# Altium integrated library ToponLib.IntLib: 48 symbols
Pins are listed as number, name and electrical type; pins without a type are passive.

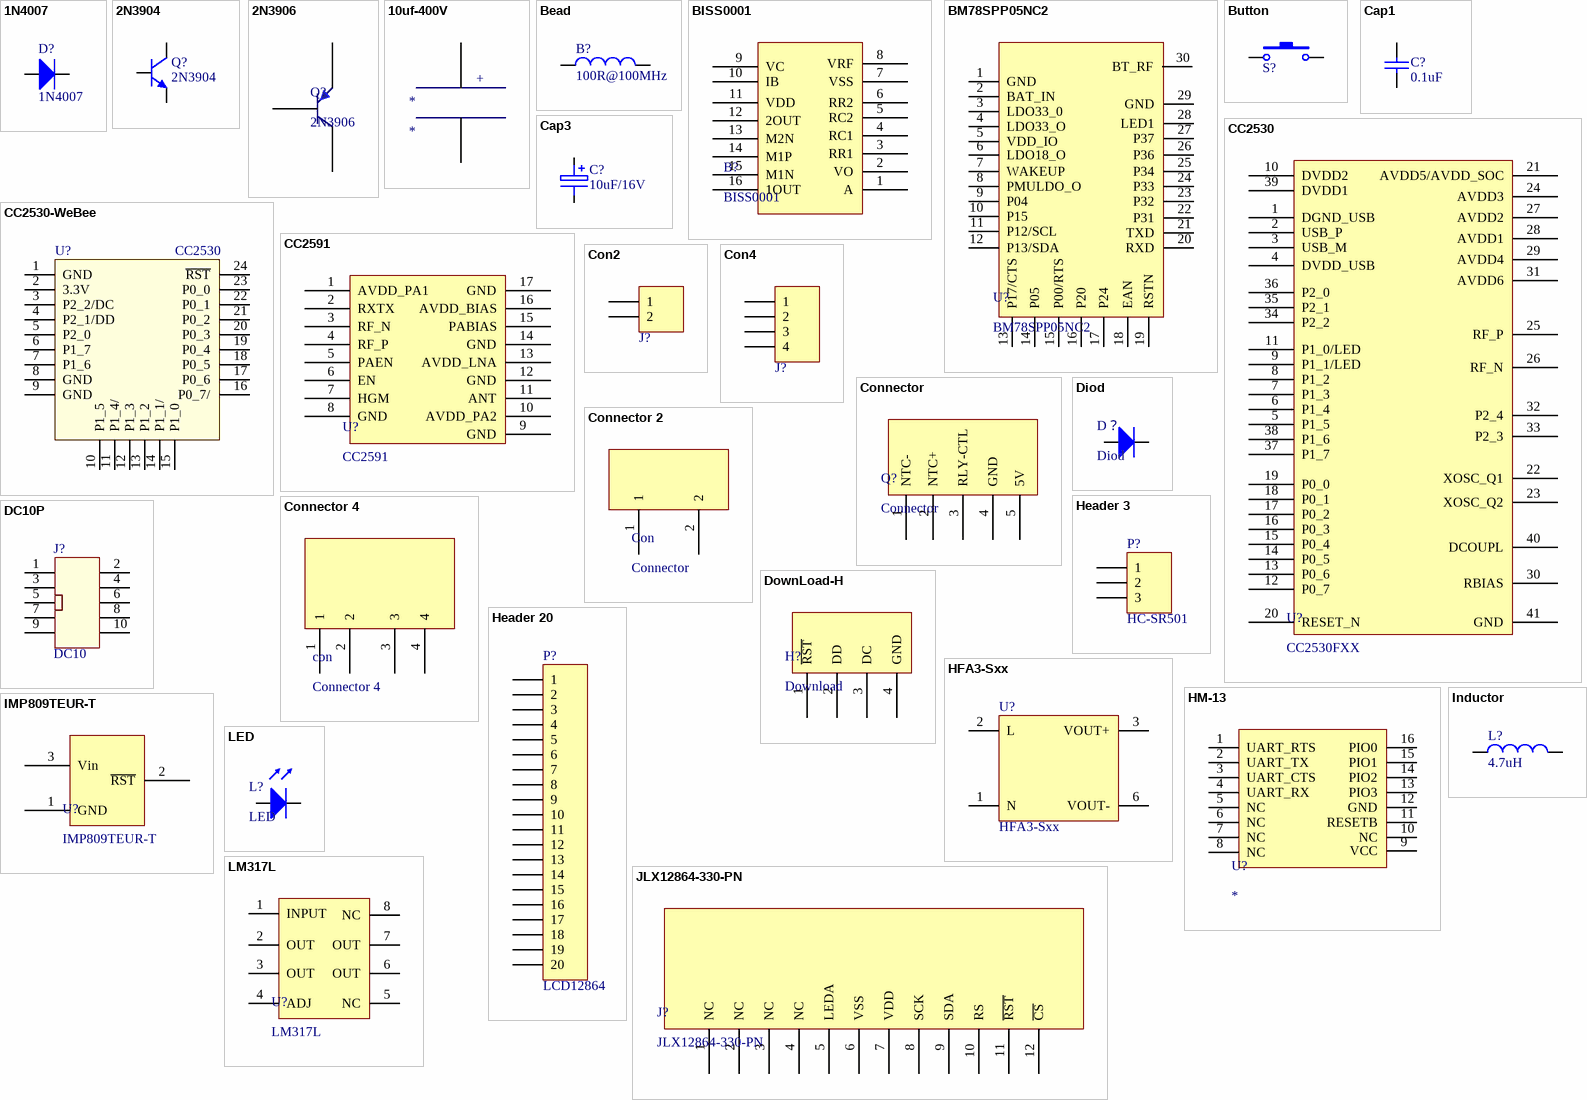
[diagram p0: symbols 1N4007 to LM317L]

## 1N4007
designator D?
footprint DO214-AC
pins: 1 A, 2 K

## 2N3904
designator Q?
footprint SOT23-3
pins: 1 B, 2 E, 3 C

## 2N3906
designator Q?
footprint SOT23-3
pins: 1 B, 2 E, 3 C

## 10uf-400V
designator *
pins: 3, 4
text: +

## Bead
designator B?, comment 100R@100MHz
footprint 0603
pins: 1, 2

## BISS0001
designator B?
footprint SOP16
pins: 1 A, 2 VO, 3 RR1, 4 RC1, 5 RC2, 6 RR2, 7 VSS, 8 VRF, 9 VC, 10 IB, 11 VDD, 12 2OUT, 13 M2N, 14 M1P, 15 M1N, 16 1OUT

## BM78SPP05NC2
designator U?
footprint BM78SPP05NC2
pins: 1 GND, 2 BAT_IN, 3 LDO33_0, 4 LDO33_O, 5 VDD_IO, 6 LDO18_O, 7 WAKEUP, 8 PMULDO_O, 9 P04, 10 P15, 11 P12/SCL, 12 P13/SDA, 13 P17/CTS, 14 P05, 15 P00/RTS, 16 P20, 17 P24, 18 EAN, 19 RSTN, 20 RXD, 21 TXD, 22 P31, 23 P32, 24 P33, 25 P34, 26 P36, 27 P37, 28 LED1, 29 GND, 30 BT_RF

## Button
designator S?  (value not drawn)
footprint BUtton-T4 (4*4*1.5)
pins: 1, 2

## Cap1
designator C?, comment 0.1uF
ceramic
footprint 0603
pins: 1, 2

## Cap3
designator C?, comment 10uF/16V
aluminum
footprint 1206
pins: 1, 2

## CC2530
designator U?, comment CC2530FXX
pins: 1 DGND_USB, 2 USB_P, 3 USB_M, 4 DVDD_USB, 5 P1_5, 6 P1_4, 7 P1_3, 8 P1_2, 9 P1_1/LED, 10 DVDD2, 11 P1_0/LED, 12 P0_7, 13 P0_6, 14 P0_5, 15 P0_4, 16 P0_3, 17 P0_2, 18 P0_1, 19 P0_0, 20 RESET_N, 21 AVDD5/AVDD_SOC, 22 XOSC_Q1, 23 XOSC_Q2, 24 AVDD3, 25 RF_P, 26 RF_N, 27 AVDD2, 28 AVDD1, 29 AVDD4, 30 RBIAS, 31 AVDD6, 32 P2_4, 33 P2_3, 34 P2_2, 35 P2_1, 36 P2_0, 37 P1_7, 38 P1_6, 39 DVDD1, 40 DCOUPL, 41 GND

## CC2530-WeBee
designator U?, comment CC2530
footprint CC2530 _CC2591
pins: 1 GND, 2 3.3V, 3 P2_2/DC, 4 P2_1/DD, 5 P2_0, 6 P1_7, 7 P1_6, 8 GND, 9 GND, 10 P1_5, 11 P1_4/, 12 P1_3, 13 P1_2, 14 P1_1/, 15 P1_0, 16 P0_7/, 17 P0_6, 18 P0_5, 19 P0_4, 20 P0_3, 21 P0_2, 22 P0_1, 23 P0_0, 24 ~{RST}

## CC2591
designator U?
pins: 1 AVDD_PA1, 2 RXTX, 3 RF_N, 4 RF_P, 5 PAEN, 6 EN, 7 HGM, 8 GND, 9 GND, 10 AVDD_PA2, 11 ANT, 12 GND, 13 AVDD_LNA, 14 GND, 15 PABIAS, 16 AVDD_BIAS, 17 GND

## Con2
designator J?  (value not drawn)
footprint CON-DG128-2
pins: 1, 2

## Con4
designator J?  (value not drawn)
footprint CON-KF635-4
pins: 1, 2, 3, 4

## Connector
designator Q?
footprint Connector
pins: 1 NTC-, 2 NTC+, 3 RLY-CTL, 4 GND, 5 5V

## Connector 2
designator Con, comment Connector
footprint Terminal 2
pins: 1, 2

## Connector 4
designator con
footprint Terminal 4
pins: 1, 2, 3, 4

## DC10P
designator J?, comment DC10
footprint DC10-2.54
pins: 1, 2, 3, 4, 5, 6, 7, 8, 9, 10

## Diod
designator D？
footprint 0603
footprint 0805
pins: 1 A, 2 K

## DownLoad-H
designator H?, comment Download
footprint DownLoad-H
pins: 1 ~{RST}, 2 DD, 3 DC, 4 GND

## Header 3
designator P?, comment HC-SR501
Header, 3-Pin; LatestRevisionDate: 17-Jul-2002; LatestRevisionNote: Re-released for DXP Platform.; Publisher: Altium Limited
footprint Header3
pins: 1, 2, 3

## Header 20
designator P?, comment LCD12864
Header, 20-Pin; LatestRevisionDate: 17-Jul-2002; LatestRevisionNote: Re-released for DXP Platform.; Publisher: Altium Limited
footprint HDR1X20 (Connector; Header; 20 Position)
pins: 1, 2, 3, 4, 5, 6, 7, 8, 9, 10, 11, 12, 13, 14, 15, 16, 17, 18, 19, 20

## HFA3-Sxx
designator U?
footprint HFA3-SXX
pins: 1 N, 2 L, 3 VOUT+, 6 VOUT-

## HM-13
designator U?
footprint HM-13
pins: 1 UART_RTS, 2 UART_TX, 3 UART_CTS, 4 UART_RX, 5 NC, 6 NC, 7 NC, 8 NC, 9 VCC, 10 NC, 11 RESETB, 12 GND, 13 PIO3, 14 PIO2, 15 PIO1, 16 PIO0

## IMP809TEUR-T
designator U?
footprint SOT23-3
pins: 1 GND, 2 ~{RST}, 3 Vin

## Inductor
designator L?, comment 4.7uH
footprint AXIAL0.3
footprint 0805
pins: 1, 2

## JLX12864-330-PN
designator J?
footprint JLX112864G-330-PN
pins: 1 NC, 2 NC, 3 NC, 4 NC, 5 LEDA, 6 VSS, 7 VDD, 8 SCK, 9 SDA, 10 RS, 11 ~{RST}, 12 ~{CS}

## LED
designator L?
footprint 0805
pins: 1 A, 2 K

## LM317L
designator U?
footprint LM317L
pins: 1 INPUT, 2 OUT, 3 OUT, 4 ADJ, 5 NC, 6 OUT, 7 OUT, 8 NC

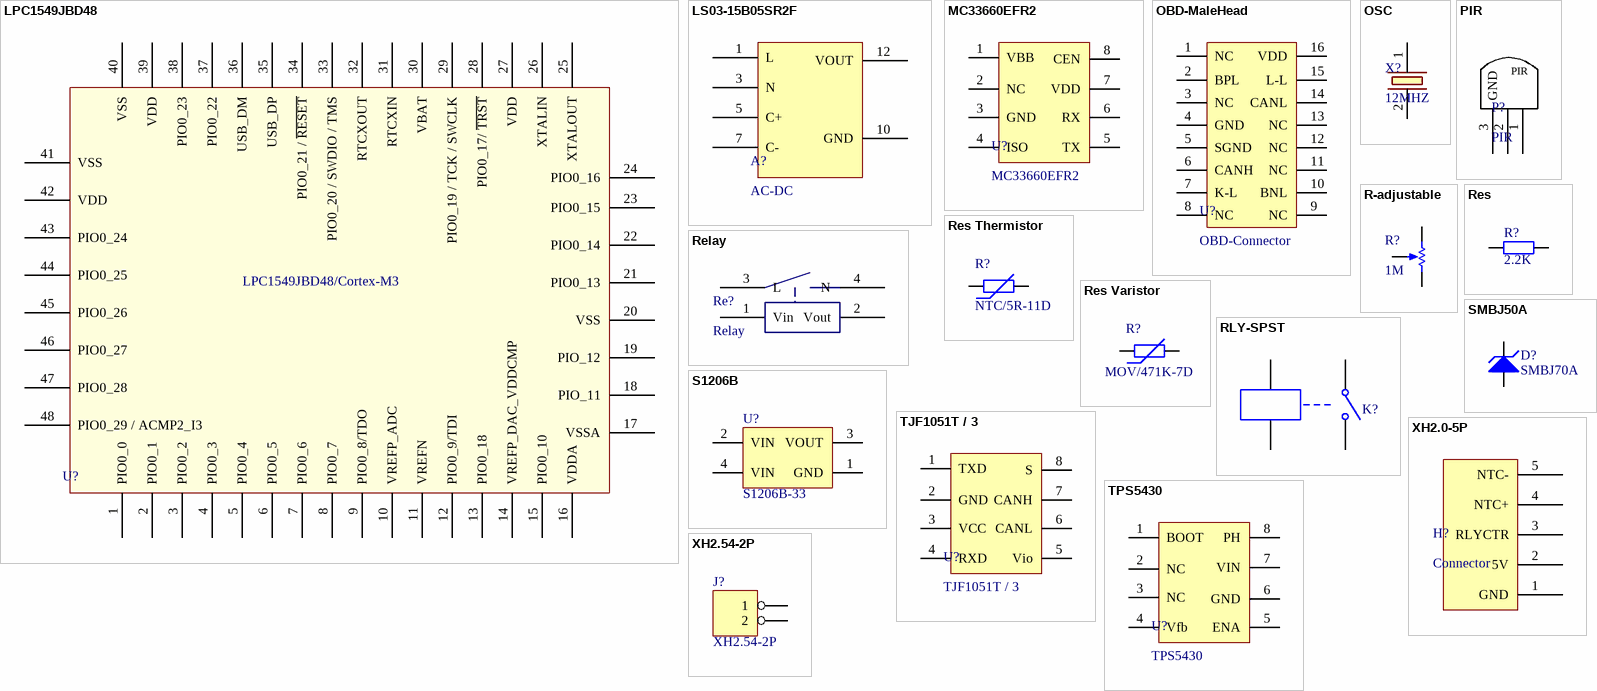
[diagram p1: symbols LPC1549JBD48 to XH2.54-2P]

## LPC1549JBD48
designator U?, comment LPC1549  (value not drawn)
footprint LPC1549JBD48
pins: 1 PIO0_0, 2 PIO0_1, 3 PIO0_2, 4 PIO0_3, 5 PIO0_4, 6 PIO0_5, 7 PIO0_6, 8 PIO0_7, 9 PIO0_8/TDO, 10 VREFP_ADC, 11 VREFN, 12 PIO0_9/TDI, 13 PIO0_18, 14 VREFP_DAC_VDDCMP, 15 PIO0_10, 16 VDDA, 17 VSSA, 18 PIO_11, 19 PIO_12, 20 VSS, 21 PIO0_13, 22 PIO0_14, 23 PIO0_15, 24 PIO0_16, 25 XTALOUT, 26 XTALIN, 27 VDD, 28 PIO0_17/ ~{TRST}, 29 PIO0_19 / TCK / SWCLK, 30 VBAT, 31 RTCXIN, 32 RTCXOUT, 33 PIO0_20 / SWDIO / TMS, 34 PIO0_21 / ~{RESET}, 35 USB_DP, 36 USB_DM, 37 PIO0_22, 38 PIO0_23, 39 VDD, 40 VSS, 41 VSS, 42 VDD, 43 PIO0_24, 44 PIO0_25, 45 PIO0_26, 46 PIO0_27, 47 PIO0_28, 48 PIO0_29 / ACMP2_I3
text: LPC1549JBD48/Cortex-M3

## LS03-15B05SR2F
designator A?, comment AC-DC
footprint LS03-15B05SR2F
pins: 1 L, 3 N, 5 C+, 7 C-, 10 GND, 12 VOUT

## MC33660EFR2
designator U?
footprint SOP-8
pins: 1 VBB, 2 NC, 3 GND, 4 ISO, 5 TX, 6 RX, 7 VDD, 8 CEN

## OBD-MaleHead
designator U?, comment OBD-Connector
footprint OBD-MaleConnector
pins: 1 NC, 2 BPL, 3 NC, 4 GND, 5 SGND, 6 CANH, 7 K-L, 8 NC, 9 NC, 10 BNL, 11 NC, 12 NC, 13 NC, 14 CANL, 15 L-L, 16 VDD

## OSC
designator X?, comment 12MHZ
footprint 12Mhz-DIP
footprint 12Mhz-DFN
pins: 1, 2

## PIR
designator P?
footprint PIR
pins: 1, 2, 3 GND

## R-adjustable
designator R?, comment 1M
footprint R-dajustable
pins: 1 TOP, 2 BOT, 3 TAP

## Relay
designator Re?
footprint RLY-HF152F (Relay)
pins: 1 Vin, 2 Vout, 3 L, 4 N

## Res
designator R?, comment 2.2K
footprint 0603
pins: 1, 2

## Res Thermistor
designator R?, comment NTC/5R-11D
footprint AXIAL0.3
footprint NTC
pins: 1, 2

## Res Varistor
designator R?, comment MOV/471K-7D
footprint AXIAL0.3
footprint NTC
pins: 1, 2

## RLY-SPST
designator K?  (value not drawn)
footprint RLY-HF152F
footprint RLY-SLA
pins: 1, 2, 3, 4

## S1206B
designator U?, comment S1206B-33
footprint SOT89-4
pins: 1 GND (power), 2 VIN (power), 3 VOUT (power), 4 VIN (power)

## SMBJ50A
designator D?, comment SMBJ70A
unipolar tvs
footprint DO214-AA
pins: 1 A, 2 K

## TJF1051T / 3
designator U?
footprint TJF1051
pins: 1 TXD, 2 GND, 3 VCC, 4 RXD, 5 Vio, 6 CANL, 7 CANH, 8 S

## TPS5430
designator U?
footprint TPS5430
pins: 1 BOOT, 2 NC, 3 NC, 4 Vfb, 5 ENA, 6 GND, 7 VIN, 8 PH

## XH2.0-5P
designator H?, comment Connector
footprint XH2.0-5P
pins: 1 GND, 2 5V, 3 RLYCTR, 4 NTC+, 5 NTC-

## XH2.54-2P
designator J?
footprint XH2.54-2P
pins: 1, 2